# Altium footprint library JGEJ_V1.0.PcbLib: 19 footprints (part 2 of 2)
Each footprint in its own frame and in the unit in brackets; x right, y up, seen from the top. Pads: shape width x height; smd on the part's side, far side on the other; paste and mask are expansions set on the pad; w line width, h text height; cw(c..) or ccw(c..) is an arc to the next point about the centre after c.
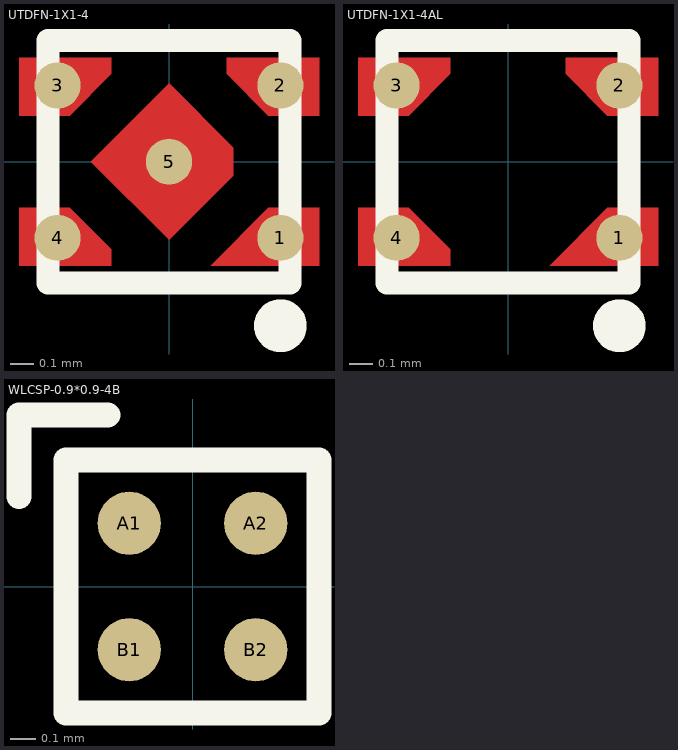
[diagram p1: the footprints below, top view; thin cyan lines are the x and y axes]

## UTDFN-1X1-4 [mm]
height 1
pads (5):
  round 0.2 smd mask+0: 1(0.483,-0.33) 2(0.483,0.33) 3(-0.483,0.33) 4(-0.483,-0.33) 5(0,0)
Top Layer:
  region: 0.65,0.2 0.43,0.2 0.25,0.38 0.25,0.45 0.65,0.45
  region: 0.65,-0.45 0.18,-0.45 0.43,-0.2 0.65,-0.2
  region: -0.25,0.38 -0.43,0.2 -0.65,0.2 -0.65,0.45 -0.25,0.45
  region: -0.25,-0.45 -0.65,-0.45 -0.65,-0.2 -0.43,-0.2 -0.25,-0.38
  region: 0,-0.339 -0.339,0 0,0.339 0.279,0.06 0.279,-0.06
Top Overlay:
  circle w0.127: c0.483,-0.711 r0.051
  lines w0.1: -0.525,-0.525 0.525,-0.525 0.525,0.525 -0.525,0.525 -0.525,-0.525
Top Paste:
  region: 0.65,0.2 0.43,0.2 0.25,0.38 0.25,0.45 0.65,0.45
  region: 0.65,-0.45 0.18,-0.45 0.43,-0.2 0.65,-0.2
  region: -0.25,0.38 -0.43,0.2 -0.65,0.2 -0.65,0.45 -0.25,0.45
  region: -0.25,-0.45 -0.65,-0.45 -0.65,-0.2 -0.43,-0.2 -0.25,-0.38
  region: 0,-0.339 -0.339,0 0,0.339 0.279,0.06 0.279,-0.06
Top Solder:
  region: 0.65,0.2 0.43,0.2 0.25,0.38 0.25,0.45 0.65,0.45
  region: 0.65,-0.45 0.18,-0.45 0.43,-0.2 0.65,-0.2
  region: -0.25,0.38 -0.43,0.2 -0.65,0.2 -0.65,0.45 -0.25,0.45
  region: -0.25,-0.45 -0.65,-0.45 -0.65,-0.2 -0.43,-0.2 -0.25,-0.38
  region: 0,-0.339 -0.339,0 0,0.339 0.279,0.06 0.279,-0.06
3D body: height 0.59, standoff -0.01, extent -0.575,-0.525 0.575,0.525

## UTDFN-1X1-4AL [mm]
height 1
pads (4):
  round 0.2 smd mask+0: 1(0.483,-0.33) 2(0.483,0.33) 3(-0.483,0.33) 4(-0.483,-0.33)
Top Layer:
  region: -0.25,-0.45 -0.65,-0.45 -0.65,-0.2 -0.43,-0.2 -0.25,-0.38
  region: -0.25,0.38 -0.43,0.2 -0.65,0.2 -0.65,0.45 -0.25,0.45
  region: 0.65,-0.45 0.18,-0.45 0.43,-0.2 0.65,-0.2
  region: 0.65,0.2 0.43,0.2 0.25,0.38 0.25,0.45 0.65,0.45
Top Overlay:
  circle w0.127: c0.483,-0.711 r0.051
  lines w0.1: -0.525,-0.525 -0.525,0.525 0.525,0.525 0.525,-0.525 -0.525,-0.525
Top Paste:
  region: -0.25,-0.45 -0.65,-0.45 -0.65,-0.2 -0.43,-0.2 -0.25,-0.38
  region: -0.25,0.38 -0.43,0.2 -0.65,0.2 -0.65,0.45 -0.25,0.45
  region: 0.65,-0.45 0.18,-0.45 0.43,-0.2 0.65,-0.2
  region: 0.65,0.2 0.43,0.2 0.25,0.38 0.25,0.45 0.65,0.45
Top Solder:
  region: -0.25,-0.45 -0.65,-0.45 -0.65,-0.2 -0.43,-0.2 -0.25,-0.38
  region: -0.25,0.38 -0.43,0.2 -0.65,0.2 -0.65,0.45 -0.25,0.45
  region: 0.65,-0.45 0.18,-0.45 0.43,-0.2 0.65,-0.2
  region: 0.65,0.2 0.43,0.2 0.25,0.38 0.25,0.45 0.65,0.45
3D body: height 0.59, standoff -0.01, extent -0.575,-0.525 0.575,0.525

## WLCSP-0.9*0.9-4B [mm]
pads (4):
  round 0.25 smd: A1(-0.25,0.25) A2(0.25,0.25) B1(-0.25,-0.25) B2(0.25,-0.25)
Top Overlay:
  lines w0.1: -0.686,0.356 -0.686,0.678 -0.335,0.678 ; -0.5,-0.5 -0.5,0.5 0.5,0.5 0.5,-0.5 -0.5,-0.5
3D body: height 1, standoff 0.3, extent -0.5,-0.5 0.5,0.5